# Altium schematic symbol library LM809.SCHLIB: 1 symbol
Pins are listed as number, name and electrical type; pins without a type are passive.

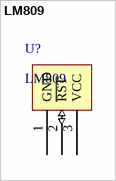
[diagram p0: symbol LM809]

## LM809
designator U?
footprint SO-G3
pins: 1 GND (power), 2 ~{RST} (io), 3 VCC (power)